# Altium schematic symbol library 08055C104KAT4A.SchLib: 1 symbol
Pins are listed as number, name and electrical type; pins without a type are passive.

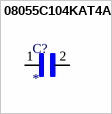
[diagram p0: symbol 08055C104KAT4A]

## 08055C104KAT4A
designator C?
.1UF 50V 10% 0805; MF: {'manufacturer': u'AVX'}; MP: 08055C104KAT4A; Value: *; Price: None; Package: None; Availability: Unavailable
footprint CAPC2012X94N
pins: 1, 2